# EAGLE library part ZX62D-B-5PA8 (library hirose-zx)
Micro USB Connector HI-SPEED Certified Source: https://www.hirose.co.jp/catalogj_hp/jd_ZX_20140305.pdf
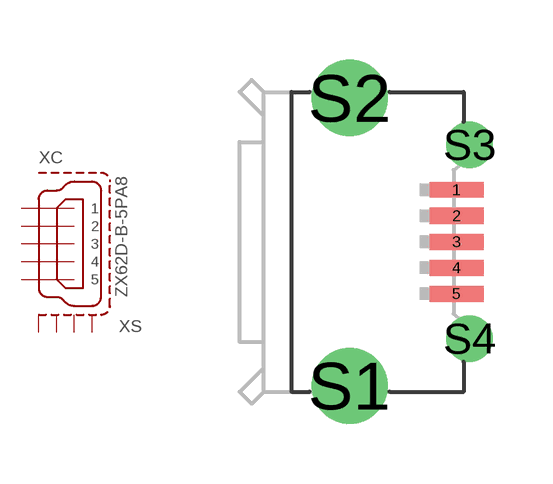
[diagram p3: symbol with the pads of ZX62D-B-5PA8; footprint ZX62D-B-5PA8]

Designator prefix X; gates C=MICRO-USB S=SHIELD-4

## ZX62D-B-5PA8  [ZX62D-B-5PA8]
1  C:1  pwr
2  C:2  out
3  C:3
4  C:4  pas
5  C:5  pwr
S1  S:S1  pas
S2  S:S2  pas
S3  S:S3  pas
S4  S:S4  pas

## Footprint ZX62D-B-5PA8 (pad centres in mm)
smd 1.35 x 0.4: 1 2.675,1.3; 2 2.675,0.65; 3 2.675,0; 4 2.675,-0.65; 5 2.675,-1.3
drill 1.25 pad 1.9: S1 0,-3.6; S2 0,3.6
drill 0.65 pad 1.05: S3 3,2.425; S4 3,-2.425